# Altium integrated library Freq_meter_PPP.IntLib: 18 symbols
Pins are listed as number, name and electrical type; pins without a type are passive.

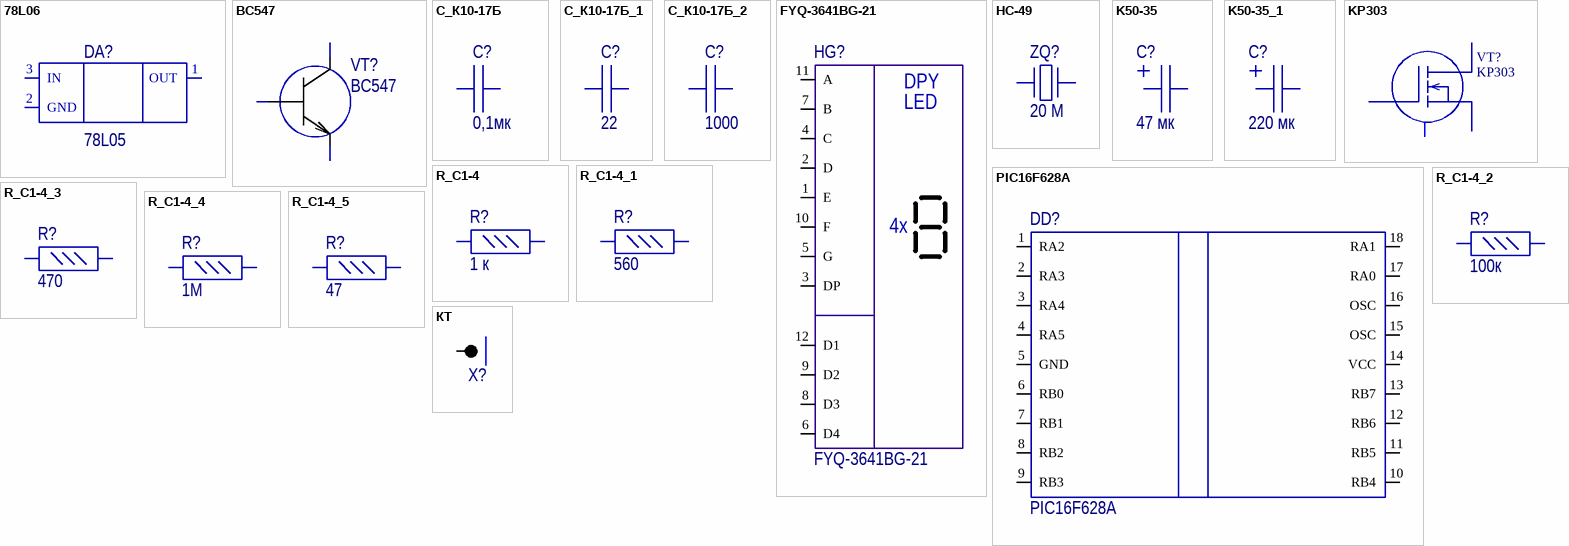
[diagram p0: symbols 78L06 to КТ]

## 78L06
designator DA?, comment 78L05
footprint КТ-26 (Аналог TO-92 // Масса не более 1г //  LIV)
pins: 1 OUT, 2 GND, 3 IN

## BC547
designator VT?
footprint КТ-26 (Аналог TO-92 // Масса не более 1г //  LIV)
pins: 1 C, 2 B, 3 E

## C_К10-17Б
designator C?, comment 0,1мк
footprint К10-17Б
pins: 1, 2

## C_К10-17Б_1
designator C?, comment 22
footprint К10-17Б
pins: 1, 2

## C_К10-17Б_2
designator C?, comment 1000
footprint К10-17Б
pins: 1, 2

## FYQ-3641BG-21
designator HG?
4-х разр. светод. индикатор, зеленый, (ОА)
footprint FYQ-3641
pins: 1 E, 2 D, 3 DP, 4 C, 5 G, 6 D4, 7 B, 8 D3, 9 D2, 10 F, 11 A, 12 D1
text: DPY; LED; 4x

## HC-49
designator ZQ?, comment 20 M
footprint HC-49
pins: 1, 2

## K50-35
designator C?, comment 47 мк
footprint К50-35
footprint К50-35 - 8x11.5
pins: 1, 2

## K50-35_1
designator C?, comment 220 мк
footprint К50-35
footprint К50-35 - 8x11.5
pins: 1, 2

## KP303
designator VT?
footprint KP303
3D model Model Name (PCB3D Model)
pins: 1 G, 2 S, 3 5, 4 D

## PIC16F628A
designator DD?
Manufacturer Part Number: TB6600HG(O); Manufacturer: Toshiba; Number Of Outputs: 4; Output Current: 4.5A; Switching Frequency: 200kHz; Max Power Dissipation: 3.2W; Motor Type: Stepper; Nominal Supply Current: 1.8-4.2mA; Standoff Height: 2.67mm; Max Supply Voltage: 42V; Min Supply Voltage: 8V; Device Class L1: Integrated Circuits (ICs); Digikey Description: IC MTR DRVR BIPOLAR 8-42V 25HZIP; ComponentLink2Description: Datasheet; Package: HZIP25-P-1.00F; RoHS: TRUE; Temperature Range Low: -30°C; Device Class L2: Power Management ICs; ComponentLink2URL: https://toshiba.semicon-storage.com/info/docget.jsp?did=14683&prodName=TB6600HG; Category: IC; Octopart: https://octopart.com/tb6600hg%28o%29-toshiba-24612481; Temperature Range High: +85°C; Temperature: -30°C to +85°C; Height: 19.87mm; Mouser Description: Motor / Motion / Ignition Controllers & Drivers 2-phase stepping motor Drvr 50V; Automotive: No; Lead Free: Yes; Device Class L3: Motor Drivers; Manufacturer 1: Toshiba; Manufacturer Part Number 1: TB6600HG(O)
footprint DIP18
pins: 1 RA2, 2 RA3, 3 RA4, 4 RA5, 5 GND, 6 RB0, 7 RB1, 8 RB2, 9 RB3, 10 RB4, 11 RB5, 12 RB6, 13 RB7, 14 VCC, 15 OSC, 16 OSC, 17 RA0, 18 RA1

## R_C1-4
designator R?, comment 1 к
footprint С1-4 (С2-33(Н)-0,125; ОМЛТ-0,125; C2-10-0,125 // Масса 0,15 г // Трубка ТВ-40,2 белая высшего сорта ГОСТ 19034-82; UMI)
footprint R_C1-4_V
pins: 1, 2

## R_C1-4_1
designator R?, comment 560
footprint С1-4 (С2-33(Н)-0,125; ОМЛТ-0,125; C2-10-0,125 // Масса 0,15 г // Трубка ТВ-40,2 белая высшего сорта ГОСТ 19034-82; UMI)
footprint R_C1-4_V
pins: 1, 2

## R_C1-4_2
designator R?, comment 100к
footprint С1-4 (С2-33(Н)-0,125; ОМЛТ-0,125; C2-10-0,125 // Масса 0,15 г // Трубка ТВ-40,2 белая высшего сорта ГОСТ 19034-82; UMI)
footprint R_C1-4_V
pins: 1, 2

## R_C1-4_3
designator R?, comment 470
footprint С1-4 (С2-33(Н)-0,125; ОМЛТ-0,125; C2-10-0,125 // Масса 0,15 г // Трубка ТВ-40,2 белая высшего сорта ГОСТ 19034-82; UMI)
footprint R_C1-4_V
pins: 1, 2

## R_C1-4_4
designator R?, comment 1М
footprint С1-4 (С2-33(Н)-0,125; ОМЛТ-0,125; C2-10-0,125 // Масса 0,15 г // Трубка ТВ-40,2 белая высшего сорта ГОСТ 19034-82; UMI)
footprint R_C1-4_V
pins: 1, 2

## R_C1-4_5
designator R?, comment 47
footprint С1-4 (С2-33(Н)-0,125; ОМЛТ-0,125; C2-10-0,125 // Масса 0,15 г // Трубка ТВ-40,2 белая высшего сорта ГОСТ 19034-82; UMI)
footprint R_C1-4_V
footprint Model Name (Footprint not found)
pins: 1, 2

## КТ
designator X?  (value not drawn)
footprint KT
pins: 1